# EAGLE library part MDBT40 (library MDBT40)
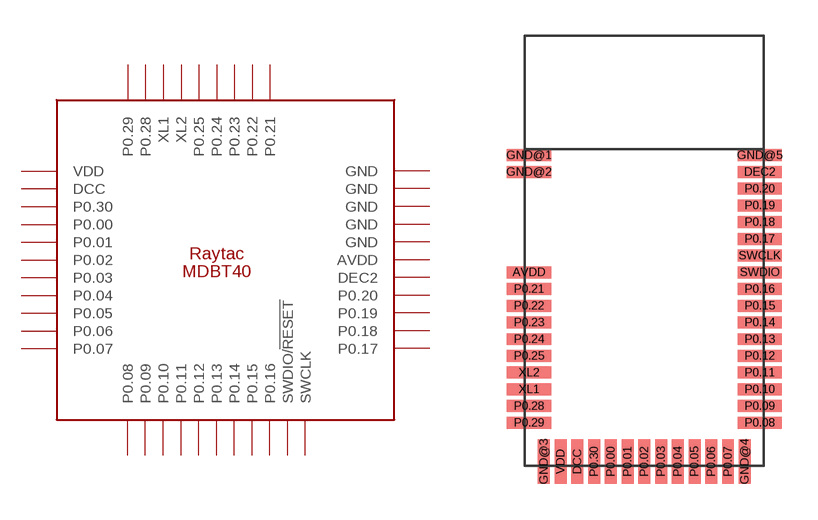
[diagram p0: symbol with the pads of MDBT40; footprint MDBT40]

Designator prefix U

## MDBT40  [MDBT40]
AVDD  AVDD
DCC  DCC
DEC2  DEC2
GND@1  GND
GND@2  GND
GND@3  GND
GND@4  GND
GND@5  GND
P0.00  P0.00
P0.01  P0.01
P0.02  P0.02
P0.03  P0.03
P0.04  P0.04
P0.05  P0.05
P0.06  P0.06
P0.07  P0.07
P0.08  P0.08
P0.09  P0.09
P0.10  P0.10
P0.11  P0.11
P0.12  P0.12
P0.13  P0.13
P0.14  P0.14
P0.15  P0.15
P0.16  P0.16
P0.17  P0.17
P0.18  P0.18
P0.19  P0.19
P0.20  P0.20
P0.21  P0.21
P0.22  P0.22
P0.23  P0.23
P0.24  P0.24
P0.25  P0.25
P0.28  P0.28
P0.29  P0.29
P0.30  P0.30
SWCLK  SWCLK
SWDIO  SWDIO/!RESET
VDD  VDD
XL1  XL1
XL2  XL2

## Footprint MDBT40 (pad centres in mm)
smd 1.85 x 0.5: AVDD -4.825,8.1; DEC2 4.825,12.3; GND@1 -4.825,13; GND@2 -4.825,12.3; GND@5 4.825,13; P0.08 4.825,1.8; P0.09 4.825,2.5; P0.10 4.825,3.2; P0.11 4.825,3.9; P0.12 4.825,4.6; P0.13 4.825,5.3; P0.14 4.825,6; P0.15 4.825,6.7; P0.16 4.825,7.4; P0.17 4.825,9.5; P0.18 4.825,10.2; P0.19 4.825,10.9; P0.20 4.825,11.6; P0.21 -4.825,7.4; P0.22 -4.825,6.7; P0.23 -4.825,6; P0.24 -4.825,5.3; P0.25 -4.825,4.6; P0.28 -4.825,2.5; P0.29 -4.825,1.8; SWCLK 4.825,8.8; SWDIO 4.825,8.1; XL1 -4.825,3.2; XL2 -4.825,3.9
smd 0.5 x 1.85: DCC -2.8,0.175; GND@3 -4.2,0.175; GND@4 4.2,0.175; P0.00 -1.4,0.175; P0.01 -0.7,0.175; P0.02 0,0.175; P0.03 0.7,0.175; P0.04 1.4,0.175; P0.05 2.1,0.175; P0.06 2.8,0.175; P0.07 3.5,0.175; P0.30 -2.1,0.175; VDD -3.5,0.175